# Altium footprint library Connector_Video.PcbLib: 9 footprints
Each footprint in its own frame and in the unit in brackets; x right, y up, seen from the top. Pads: shape width x height; smd on the part's side, far side on the other; paste and mask are expansions set on the pad; w line width, h text height; cw(c..) or ccw(c..) is an arc to the next point about the centre after c.
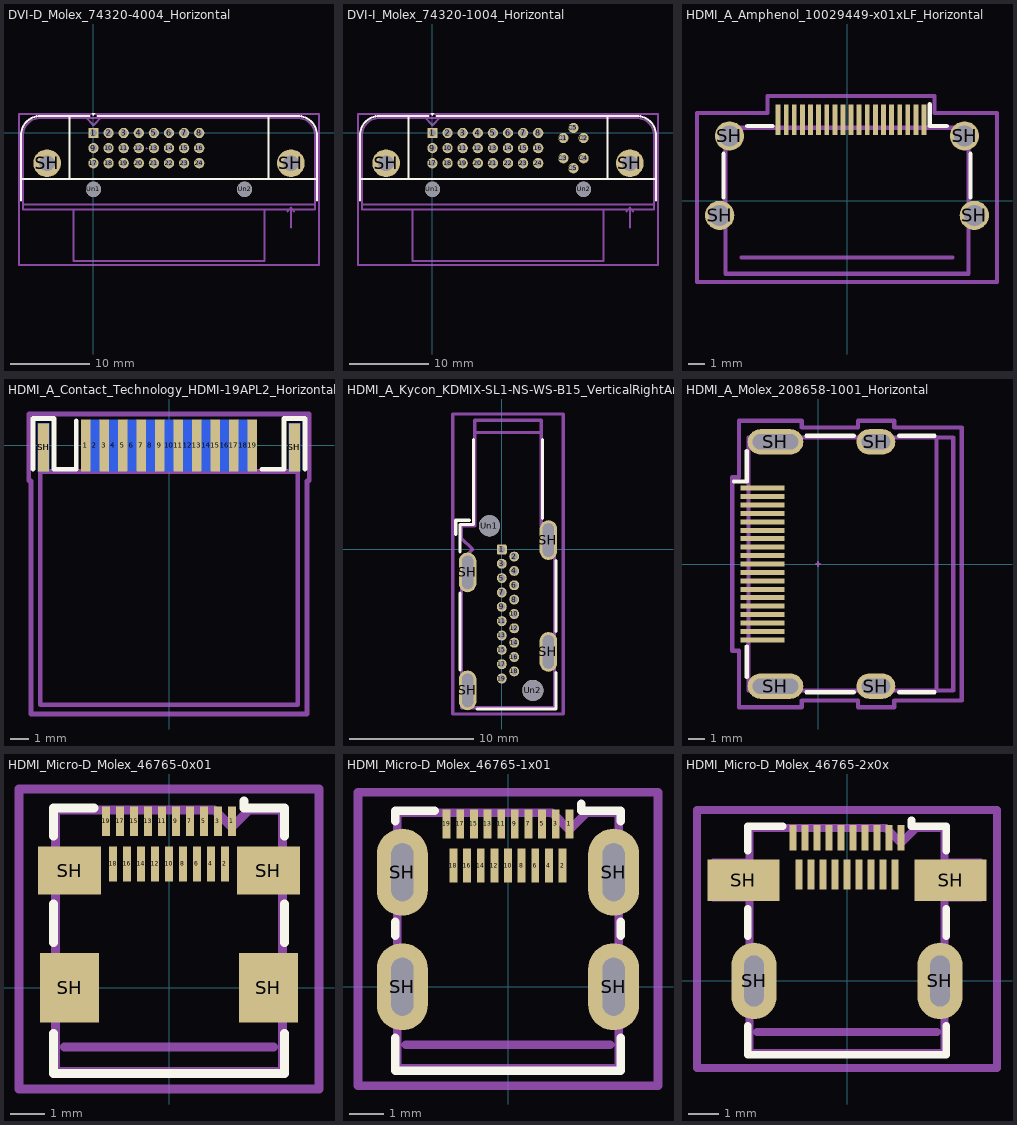
[diagram p0: the footprints below, top view; thin cyan lines are the x and y axes]

## DVI-D_Molex_74320-4004_Horizontal [mm]
pads (28):
  rrect19% 1.3x1.3 hole 0.85: 1(0,0)
  round 1.3 hole 0.85: 2(1.905,0) 3(3.81,0) 4(5.715,0) 5(7.62,0) 6(9.525,0) 7(11.43,0) 8(13.335,0) 9(0,-1.905) 10(1.905,-1.905) 11(3.81,-1.905) 12(5.715,-1.905) 13(7.62,-1.905) 14(9.525,-1.905) 15(11.43,-1.905) 16(13.335,-1.905) 17(0,-3.81) 18(1.905,-3.81) 19(3.81,-3.81) 20(5.715,-3.81) 21(7.62,-3.81) 22(9.525,-3.81) 23(11.43,-3.81) 24(13.335,-3.81)
  round 3.5 hole 2: SH(-5.842,-3.81) SH(24.892,-3.81)
  round 1.93 hole 1.93: Un1(0,-7.112) Un2(19.05,-7.112)
F.SilkS:
  region: 0,2.164 -0.2,2.504 0.2,2.504
  lines w0.254: -9.15,-8.482 -9.15,-0.33 cw(c-6.655,-0.33) -6.655,2.165 -0.508,2.165 ; -9.15,-5.82 28.2,-5.82 ; -3.048,-5.82 -3.048,2.163 ; 0.508,2.165 25.705,2.165 cw(c25.705,-0.33) 28.2,-0.33 28.2,-8.482 ; 22.098,-5.82 22.098,2.165
Top Component Center:
  lines w0.127: -0.127,0 0.127,0 ; 0,-0.127 0,0.127 ; 6.604,-1.905 6.858,-1.905 ; 6.731,-2.032 6.731,-1.778
Top Assembly:
  lines w0.254: -2.489,-9.627 -2.489,-16.129 21.539,-16.129 21.539,-9.627 ; -0.9,1.9 0,1 0.9,1.9 ; -8.89,-9.627 -8.89,-0.33 cw(c-6.655,-0.33) -6.655,1.905 25.705,1.905 cw(c25.705,-0.33) 27.94,-0.33 27.94,-9.627 -8.89,-9.627
  text "'.Designator'" at 5.478,-4.701 h1
Top Courtyard:
  lines w0.254: -9.39,-16.63 -9.39,2.41 28.44,2.41 28.44,-16.63 -9.39,-16.63
Top Designator:
  text ".Designator" at 1.907,-7.618 h1.52
Dwgs.User:
  lines w0.254: -8.89,-9.042 27.94,-9.042
Cmts.User:
  lines w0.254: 24.492,-9.898 24.892,-9.398 ; 24.892,-11.938 24.892,-9.398 ; 25.292,-9.898 24.892,-9.398
  text "PCB Edge" at 23.144,-12.879 h0.5

## DVI-I_Molex_74320-1004_Horizontal [mm]
pads (34):
  rrect19% 1.3x1.3 hole 0.85: 1(0,0)
  round 1.3 hole 0.85: 2(1.905,0) 3(3.81,0) 4(5.715,0) 5(7.62,0) 6(9.525,0) 7(11.43,0) 8(13.335,0) 9(0,-1.905) 10(1.905,-1.905) 11(3.81,-1.905) 12(5.715,-1.905) 13(7.62,-1.905) 14(9.525,-1.905) 15(11.43,-1.905) 16(13.335,-1.905) 17(0,-3.81) 18(1.905,-3.81) 19(3.81,-3.81) 20(5.715,-3.81) 21(7.62,-3.81) 22(9.525,-3.81) 23(11.43,-3.81) 24(13.335,-3.81)
  round 1.3 hole 0.7: C1(16.51,-0.635) C2(19.05,-0.635) C3(16.51,-3.175) C4(19.05,-3.175) C5(17.78,-4.445) C5(17.78,0.635)
  round 3.5 hole 2: SH(-5.842,-3.81) SH(24.892,-3.81)
  round 1.93 hole 1.93: Un1(0,-7.112) Un2(19.05,-7.112)
F.SilkS:
  region: 0,2.164 -0.2,2.504 0.2,2.504
  lines w0.254: -9.15,-8.482 -9.15,-0.33 cw(c-6.655,-0.33) -6.655,2.165 -0.508,2.165 ; -9.15,-5.82 28.2,-5.82 ; -3.048,-5.82 -3.048,2.165 ; 0.508,2.165 25.705,2.165 cw(c25.705,-0.33) 28.2,-0.33 28.2,-8.482 ; 22.098,-5.82 22.098,2.165
Top Assembly:
  lines w0.254: -2.489,-9.627 -2.489,-16.129 21.539,-16.129 21.539,-9.627 ; -0.9,1.9 0,1 0.9,1.9 ; -8.89,-9.627 -8.89,-0.33 cw(c-6.655,-0.33) -6.655,1.905 25.705,1.905 cw(c25.705,-0.33) 27.94,-0.33 27.94,-9.627 -8.89,-9.627
  text "'.Designator'" at 5.478,-4.701 h1
Top Courtyard:
  lines w0.254: -9.39,-16.63 -9.39,2.41 28.44,2.41 28.44,-16.63 -9.39,-16.63
Top Designator:
  text ".Designator" at 1.907,-7.618 h1.52
Dwgs.User:
  lines w0.254: -8.89,-9.042 27.94,-9.042
Cmts.User:
  lines w0.254: 24.492,-9.898 24.892,-9.398 ; 24.892,-11.938 24.892,-9.398 ; 25.292,-9.898 24.892,-9.398
  text "PCB Edge" at 23.144,-12.879 h0.5

## HDMI_A_Amphenol_10029449-x01xLF_Horizontal [mm]
pads (23):
  rect 0.3x1.9 smd: 1(4.75,5) 2(4.25,5) 3(3.75,5) 4(3.25,5) 5(2.75,5) 6(2.25,5) 7(1.75,5) 8(1.25,5) 9(0.75,5) 10(0.25,5) 11(-0.25,5) 12(-0.75,5) 13(-1.25,5) 14(-1.75,5) 15(-2.25,5) 16(-2.75,5) 17(-3.25,5) 18(-3.75,5) 19(-4.25,5)
  round 1.8 hole 1.3: SH(-7.85,-0.9) SH(-7.25,4) SH(7.25,4) SH(7.85,-0.9)
F.SilkS:
  lines w0.254: -7.62,0.2 -7.62,2.9 ; -6.15,4.62 -4.6,4.62 ; 5.1,5.95 5.1,4.62 6.15,4.62 ; 7.62,0.2 7.62,2.9
Top Assembly:
  lines w0.254: -7.5,-4.5 7.5,-4.5 7.5,4.5 -7.5,4.5 -7.5,-4.5
  text "'.Designator'" at -4.047,-1.74 h1
Top Courtyard:
  lines w0.254: -9.25,-5 9.25,-5 9.25,5.4 5.4,5.4 5.4,6.45 -4.9,6.45 -4.9,5.4 -9.25,5.4 -9.25,-5
Top Designator:
  text ".Designator" at -7.618,0.217 h1.52
Dwgs.User:
  lines w0.254: -6.5,-3.5 6.5,-3.5
  text "PCB Edge" at -3.447,-4.317 h1

## HDMI_A_Contact_Technology_HDMI-19APL2_Horizontal [mm]
pads (23):
  rect 0.5x2.8 smd: 1(-4.5,0) 3(-3.5,0) 5(-2.5,0) 7(-1.5,0) 9(-0.5,0) 11(0.5,0) 13(1.5,0) 15(2.5,0) 17(3.5,0) 19(4.5,0)
  rect 0.5x2.8 smd far side: 2(-4,0) 4(-3,0) 6(-2,0) 8(-1,0) 10(0,0) 12(1,0) 14(2,0) 16(3,0) 18(4,0)
  rect 0.6x2.6 smd: SH(-6.775,-0.1) SH(6.775,-0.1)
  rect 0.6x2.6 smd far side: SH(-6.775,-0.1) SH(6.775,-0.1)
F.SilkS:
  lines w0.254: -7.34,-1.29 -7.34,1.46 -6.21,1.46 -6.21,-1.29 -5.01,-1.29 -5.01,1.34 ; 5.01,-1.29 6.21,-1.29 6.21,1.46 7.34,1.46 7.34,-1.29
B.SilkS:
  lines w0.254: -7.34,-1.29 -7.34,1.46 -6.21,1.46 -6.21,-1.29 -5.01,-1.29 ; 5.01,-1.29 6.21,-1.29 6.21,1.46 7.34,1.46 7.34,-1.29
Top Assembly:
  lines w0.254: -6.95,-14 6.95,-14 6.95,0.9 6.6,0.9 6.6,-1.4 -6.6,-1.4 -6.6,0.9 -6.95,0.9 -6.95,-14
  text "'.Designator'" at -4.327,-7.95 h1
Top Courtyard:
  lines w0.254: -7.58,-1.9 -7.45,-1.9 -7.45,-14.5 7.45,-14.5 7.45,-1.9 7.58,-1.9 7.58,1.7 -7.58,1.7 -7.58,-1.9
Top Designator:
  text ".Designator" at -7.618,-6.908 h1.52
Dwgs.User:
  lines w0.254: -6.95,-1.4 6.95,-1.4
  text "PCB Edge" at -3.447,-3.017 h1

## HDMI_A_Kycon_KDMIX-SL1-NS-WS-B15_VerticalRightAngle [mm]
pads (25):
  rrect31% 0.8x0.8 hole 0.55: 1(0,0)
  round 0.8 hole 0.55: 2(1,-0.577) 3(0,-1.155) 4(1,-1.733) 5(0,-2.31) 6(1,-2.887) 7(0,-3.465) 8(1,-4.042) 9(0,-4.62) 10(1,-5.198) 11(0,-5.775) 12(1,-6.352) 13(0,-6.93) 14(1,-7.508) 15(0,-8.085) 16(1,-8.662) 17(0,-9.24) 18(1,-9.817) 19(0,-10.395)
  rrect100% 1.4x3.2 hole 2.7 slot 0.9 at 0 deg: SH(-2.75,-11.35) SH(-2.75,-1.85) SH(3.75,-8.25) SH(3.75,0.75)
  round 1.7 hole 1.7: Un1(-1,1.9) Un2(2.5,-11.35)
F.SilkS:
  lines w0.254: -3.7,1.2 -3.7,2.35 -2.6,2.35 ; -3.36,-9.7 -3.36,-3.5 ; -3.36,-0.2 -3.36,2.01 -2.285,2.01 -2.285,8.84 ; -2,-12.86 4.36,-12.86 4.36,-9.9 ; 3.285,2.5 3.285,8.84 ; 4.36,-6.6 4.36,-0.9
Top Assembly:
  lines w0.254: -3.25,-12.75 4.25,-12.75 4.25,1.9 3.175,1.9 3.175,10.4 -2.175,10.4 -2.175,1.9 -3.25,1.9 -3.25,0.9 -2.35,0 -3.25,-0.9 -3.25,-12.75
  text "'.Designator'" at -3.547,-5.749 h1
Top Courtyard:
  lines w0.254: -3.95,-13.25 4.95,-13.25 4.95,10.9 -3.95,10.9 -3.95,-13.25
Top Designator:
  text ".Designator" at -7.118,-1.683 h1.52
Dwgs.User:
  lines w0.254: -2.175,9.4 3.175,9.4
  text "PCB Edge" at -2.947,7.683 h1

## HDMI_A_Molex_208658-1001_Horizontal [mm]
pads (23):
  rect 2.6x0.3 smd: 1(-3.285,4.5) 2(-3.285,4) 3(-3.285,3.5) 4(-3.285,3) 5(-3.285,2.5) 6(-3.285,2) 7(-3.285,1.5) 8(-3.285,1) 9(-3.285,0.5) 10(-3.285,0) 11(-3.285,-0.5) 12(-3.285,-1) 13(-3.285,-1.5) 14(-3.285,-2) 15(-3.285,-2.5) 16(-3.285,-3) 17(-3.285,-3.5) 18(-3.285,-4) 19(-3.285,-4.5)
  rrect100% 3.3x1.5 hole 0.9 slot 2.7 at 0 deg: SH(-2.525,-7.25) SH(-2.525,7.25)
  rrect100% 2.3x1.5 hole 0.9 slot 1.7 at 0 deg: SH(3.435,-7.25) SH(3.435,7.25)
F.SilkS:
  lines w0.254: -4.985,4.9 -4.235,4.9 -4.235,6.7 ; -4.235,-6.7 -4.235,-4.9 ; -0.685,-7.61 2.115,-7.61 ; -0.685,7.61 2.115,7.61 ; 4.815,-7.61 6.915,-7.61 ; 4.815,7.61 6.915,7.61
Top Component Center:
  lines w0.127: -0.127,0 0.127,0 ; 0,-0.127 0,0.127
Top Assembly:
  lines w0.254: -4.125,-7.5 8.025,-7.5 8.025,7.5 -4.125,7.5 -4.125,-7.5
  text "'.Designator'" at 0.227,-2.418 h1
Top Courtyard:
  lines w0.254: -5.09,-5.15 -4.69,-5.15 -4.69,-8.5 -0.96,-8.5 -0.96,-8.1 2.37,-8.1 2.37,-8.5 4.52,-8.5 4.52,-8.1 8.53,-8.1 8.53,8.1 4.52,8.1 4.52,8.5 2.37,8.5 2.37,8.1 -0.96,8.1 -0.96,8.5 -4.69,8.5 -4.69,5.15 -5.09,5.15 -5.09,-5.15
Top Designator:
  text ".Designator" at 0.345,-3.434 h1.52
Dwgs.User:
  lines w0.254: 7.025,-7.5 7.025,7.5
  text "PCB Edge" at 6.532,-3.447 h1
3D body "HDMI_A_Molex_208658-1001_Horizontal.step": height 6.19, standoff -2.2, extent -4.15,-7.5 8,7.5

## HDMI_Micro-D_Molex_46765-0x01 [mm]
pads (23):
  rect 0.23x0.85 smd: 1(1.8,4.775) 3(1.4,4.775) 5(1,4.775) 7(0.6,4.775) 9(0.2,4.775) 11(-0.2,4.775) 13(-0.6,4.775) 15(-1,4.775) 17(-1.4,4.775) 19(-1.8,4.775)
  rect 0.23x1 smd: 2(1.6,3.55) 4(1.2,3.55) 6(0.8,3.55) 8(0.4,3.55) 10(0,3.55) 12(-0.4,3.55) 14(-0.8,3.55) 16(-1.2,3.55) 18(-1.6,3.55)
  rect 1.7x2 smd: SH(-2.85,0) SH(2.85,0)
  rect 1.8x1.38 smd: SH(-2.85,3.36) SH(2.85,3.36)
F.SilkS:
  lines w0.254: -3.31,-1.3 -3.31,-2.46 3.31,-2.46 3.31,-1.3 ; -3.31,1.3 -3.31,2.4 ; -3.31,4.35 -3.31,5.16 -2.15,5.16 ; 2.15,5.36 2.15,5.16 3.31,5.16 3.31,4.35 ; 3.31,1.3 3.31,2.4
Top Assembly:
  lines w0.254: -3.25,-2.4 3.25,-2.4 3.25,5.1 2.3,5.1 1.8,4.6 1.3,5.1 -3.25,5.1 -3.25,-2.4
  text "'.Designator'" at -4.047,2.46 h1
Top Courtyard:
  lines w0.254: -4.3,-2.9 4.3,-2.9 4.3,5.7 -4.3,5.7 -4.3,-2.9
Top Designator:
  text ".Designator" at -7.618,0.892 h1.52
Dwgs.User:
  lines w0.254: -3,-1.7 3,-1.7
Cmts.User:
  text "KEEPOUT" at -2.185,0.02 h0.7

## HDMI_Micro-D_Molex_46765-1x01 [mm]
pads (23):
  rect 0.23x0.85 smd: 1(1.8,4.775) 3(1.4,4.775) 5(1,4.775) 7(0.6,4.775) 9(0.2,4.775) 11(-0.2,4.775) 13(-0.6,4.775) 15(-1,4.775) 17(-1.4,4.775) 19(-1.8,4.775)
  rect 0.23x1 smd: 2(1.6,3.55) 4(1.2,3.55) 6(0.8,3.55) 8(0.4,3.55) 10(0,3.55) 12(-0.4,3.55) 14(-0.8,3.55) 16(-1.2,3.55) 18(-1.6,3.55)
  rrect100% 1.5x2.55 hole 1.7 slot 0.65 at 0 deg: SH(-3.1,0) SH(-3.1,3.36) SH(3.1,0) SH(3.1,3.36)
F.SilkS:
  lines w0.254: -3.31,-1.5 -3.31,-2.46 3.31,-2.46 3.31,-1.5 ; -3.31,1.5 -3.31,1.9 ; -3.31,4.85 -3.31,5.16 -2.15,5.16 ; 2.15,5.36 2.15,5.16 3.31,5.16 3.31,4.85 ; 3.31,1.5 3.31,1.9
Top Assembly:
  lines w0.254: 1.3,5.1 -3.25,5.1 -3.25,-2.4 3.25,-2.4 3.25,5.1 2.3,5.1 1.8,4.6
  text "'.Designator'" at -4.047,2.46 h1
Bottom Assembly:
  lines w0.254: 1.3,5.1 1.8,4.6
Top Courtyard:
  lines w0.254: -4.4,-2.9 4.4,-2.9 4.4,5.7 -4.4,5.7 -4.4,-2.9
Top Designator:
  text ".Designator" at -7.618,0.892 h1.52
Dwgs.User:
  lines w0.254: -3,-1.7 3,-1.7
Cmts.User:
  text "KEEPOUT" at -2.185,0.02 h0.7

## HDMI_Micro-D_Molex_46765-2x0x [mm]
pads (23):
  rect 0.23x0.85 smd: 1(1.8,4.775) 3(1.4,4.775) 5(1,4.775) 7(0.6,4.775) 9(0.2,4.775) 11(-0.2,4.775) 13(-0.6,4.775) 15(-1,4.775) 17(-1.4,4.775) 19(-1.8,4.775)
  rect 0.23x1 smd: 2(1.6,3.55) 4(1.2,3.55) 6(0.8,3.55) 8(0.4,3.55) 10(0,3.55) 12(-0.4,3.55) 14(-0.8,3.55) 16(-1.2,3.55) 18(-1.6,3.55)
  rect 2.4x1.38 smd: SH(-3.45,3.36) SH(3.45,3.36)
  rrect100% 1.5x2.55 hole 1.7 slot 0.65 at 0 deg: SH(-3.1,0) SH(3.1,0)
F.SilkS:
  lines w0.254: -3.31,-1.5 -3.31,-2.46 3.31,-2.46 3.31,-1.5 ; -3.31,1.5 -3.31,2.4 ; -3.31,4.35 -3.31,5.16 -2.15,5.16 ; 2.15,5.36 2.15,5.16 3.31,5.16 3.31,4.35 ; 3.31,1.5 3.31,2.4
Top Assembly:
  lines w0.254: -4.45,2.77 -3.25,2.77 -3.25,-2.4 3.25,-2.4 3.25,2.77 4.45,2.77 4.45,3.95 3.25,3.95 3.25,5.1 2.3,5.1 1.8,4.6 1.3,5.1 -3.25,5.1 -3.25,3.95 -4.45,3.95 -4.45,2.77
  text "'.Designator'" at -4.047,2.46 h1
Top Courtyard:
  lines w0.254: -5,-2.9 5,-2.9 5,5.7 -5,5.7 -5,-2.9
Top Designator:
  text ".Designator" at -7.618,0.892 h1.52
Dwgs.User:
  lines w0.254: -3,-1.7 3,-1.7
Cmts.User:
  text "KEEPOUT" at -2.185,0.02 h0.7